# Altium schematic symbol library 613 0xx 218 21.SchLib: 21 symbols
Pins are listed as number, name and electrical type; pins without a type are passive.

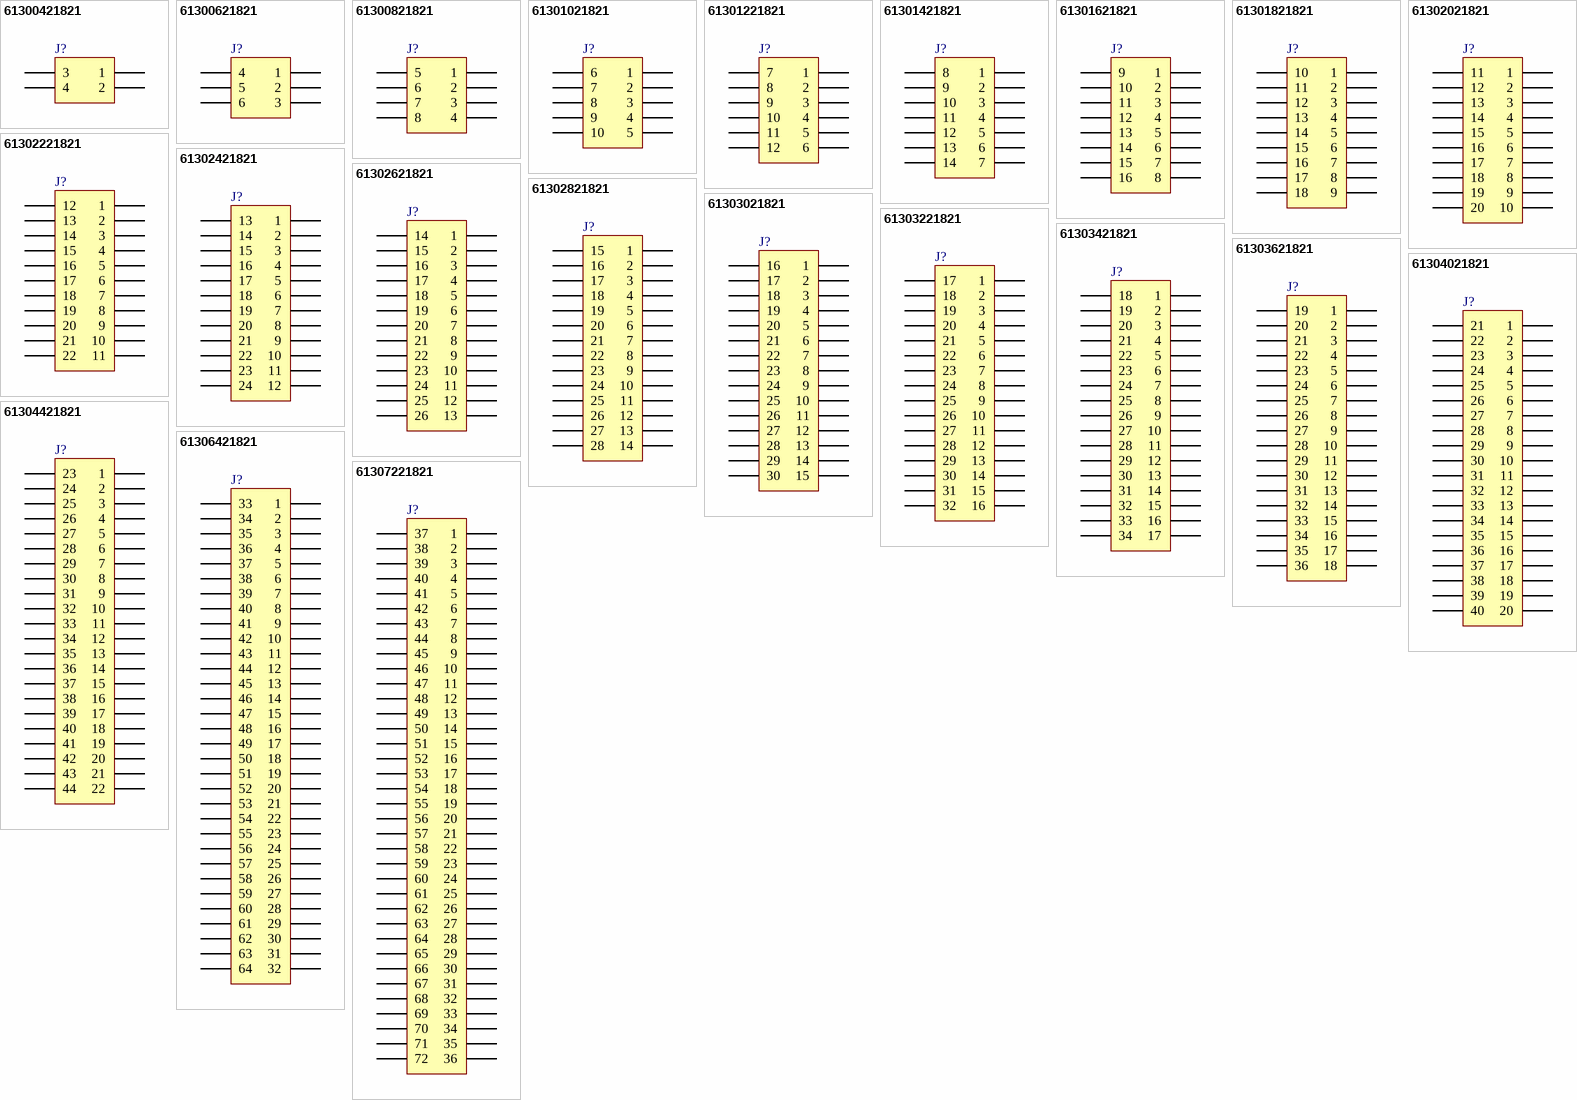
[diagram p0: symbols 61300421821 to 61307221821]

## 61300421821
designator J?, comment 04p  (value not drawn)
WR-PHD 2.54 mm Dual Socket Header, 04p; PartNumber: 61300421821; PublishedDate: July 2016; Publisher: Wurth Elektronik; ComponentLink1Description: Manufacturer; ComponentLink1URL: http://www.we-online.de; ComponentLink2Description: Datasheet; ComponentLink2URL: http://katalog.we-online.de/em/datasheet/6130xx21821.pdf; PinNumber: 04p
footprint 61300421821
pins: 1, 2, 3, 4

## 61300621821
designator J?, comment 06p  (value not drawn)
WR-PHD 2.54 mm Dual Socket Header, 06p; PartNumber: 61300621821; PublishedDate: July 2016; Publisher: Wurth Elektronik; ComponentLink1Description: Manufacturer; ComponentLink1URL: http://www.we-online.de; ComponentLink2Description: Datasheet; ComponentLink2URL: http://katalog.we-online.de/em/datasheet/6130xx21821.pdf; PinNumber: 06p
footprint 61300621821
pins: 1, 2, 3, 4, 5, 6

## 61300821821
designator J?, comment 08p  (value not drawn)
WR-PHD 2.54 mm Dual Socket Header, 08p; PartNumber: 61300821821; PublishedDate: July 2016; Publisher: Wurth Elektronik; ComponentLink1Description: Manufacturer; ComponentLink1URL: http://www.we-online.de; ComponentLink2Description: Datasheet; ComponentLink2URL: http://katalog.we-online.de/em/datasheet/6130xx21821.pdf; PinNumber: 08p
footprint 61300821821
pins: 1, 2, 3, 4, 5, 6, 7, 8

## 61301021821
designator J?, comment 10p  (value not drawn)
WR-PHD 2.54 mm Dual Socket Header, 10p; PartNumber: 61301021821; PublishedDate: July 2016; Publisher: Wurth Elektronik; ComponentLink1Description: Manufacturer; ComponentLink1URL: http://www.we-online.de; ComponentLink2Description: Datasheet; ComponentLink2URL: http://katalog.we-online.de/em/datasheet/6130xx21821.pdf; PinNumber: 10p
footprint 61301021821
pins: 1, 2, 3, 4, 5, 6, 7, 8, 9, 10

## 61301221821
designator J?, comment 12p  (value not drawn)
WR-PHD 2.54 mm Dual Socket Header, 12p; PartNumber: 61301221821; PublishedDate: July 2016; Publisher: Wurth Elektronik; ComponentLink1Description: Manufacturer; ComponentLink1URL: http://www.we-online.de; ComponentLink2Description: Datasheet; ComponentLink2URL: http://katalog.we-online.de/em/datasheet/6130xx21821.pdf; PinNumber: 12p
footprint 61301221821
pins: 1, 2, 3, 4, 5, 6, 7, 8, 9, 10, 11, 12

## 61301421821
designator J?, comment 14p  (value not drawn)
WR-PHD 2.54 mm Dual Socket Header, 14p; PartNumber: 61301421821; PublishedDate: July 2016; Publisher: Wurth Elektronik; ComponentLink1Description: Manufacturer; ComponentLink1URL: http://www.we-online.de; ComponentLink2Description: Datasheet; ComponentLink2URL: http://katalog.we-online.de/em/datasheet/6130xx21821.pdf; PinNumber: 14p
footprint 61301421821
pins: 1, 2, 3, 4, 5, 6, 7, 8, 9, 10, 11, 12, 13, 14

## 61301621821
designator J?, comment 16p  (value not drawn)
WR-PHD 2.54 mm Dual Socket Header, 16p; PartNumber: 61301621821; PublishedDate: July 2016; Publisher: Wurth Elektronik; ComponentLink1Description: Manufacturer; ComponentLink1URL: http://www.we-online.de; ComponentLink2Description: Datasheet; ComponentLink2URL: http://katalog.we-online.de/em/datasheet/6130xx21821.pdf; PinNumber: 16p
footprint 61301621821
pins: 1, 2, 3, 4, 5, 6, 7, 8, 9, 10, 11, 12, 13, 14, 15, 16

## 61301821821
designator J?, comment 18p  (value not drawn)
WR-PHD 2.54 mm Dual Socket Header, 18p; PartNumber: 61301821821; PublishedDate: July 2016; Publisher: Wurth Elektronik; ComponentLink1Description: Manufacturer; ComponentLink1URL: http://www.we-online.de; ComponentLink2Description: Datasheet; ComponentLink2URL: http://katalog.we-online.de/em/datasheet/6130xx21821.pdf; PinNumber: 18p
footprint 61301821821
pins: 1, 2, 3, 4, 5, 6, 7, 8, 9, 10, 11, 12, 13, 14, 15, 16, 17, 18

## 61302021821
designator J?, comment 20p  (value not drawn)
WR-PHD 2.54 mm Dual Socket Header, 20p; PartNumber: 61302021821; PublishedDate: July 2016; Publisher: Wurth Elektronik; ComponentLink1Description: Manufacturer; ComponentLink1URL: http://www.we-online.de; ComponentLink2Description: Datasheet; ComponentLink2URL: http://katalog.we-online.de/em/datasheet/6130xx21821.pdf; PinNumber: 20p
footprint 61302021821
pins: 1, 2, 3, 4, 5, 6, 7, 8, 9, 10, 11, 12, 13, 14, 15, 16, 17, 18, 19, 20

## 61302221821
designator J?, comment 22p  (value not drawn)
WR-PHD 2.54 mm Dual Socket Header, 22p; PartNumber: 61302221821; PublishedDate: July 2016; Publisher: Wurth Elektronik; ComponentLink1Description: Manufacturer; ComponentLink1URL: http://www.we-online.de; ComponentLink2Description: Datasheet; ComponentLink2URL: http://katalog.we-online.de/em/datasheet/6130xx21821.pdf; PinNumber: 22p
footprint 61302221821
pins: 1, 2, 3, 4, 5, 6, 7, 8, 9, 10, 11, 12, 13, 14, 15, 16, 17, 18, 19, 20, 21, 22

## 61302421821
designator J?, comment 24p  (value not drawn)
WR-PHD 2.54 mm Dual Socket Header, 24p; PartNumber: 61302421821; PublishedDate: July 2016; Publisher: Wurth Elektronik; ComponentLink1Description: Manufacturer; ComponentLink1URL: http://www.we-online.de; ComponentLink2Description: Datasheet; ComponentLink2URL: http://katalog.we-online.de/em/datasheet/6130xx21821.pdf; PinNumber: 24p
footprint 61302421821
pins: 1, 2, 3, 4, 5, 6, 7, 8, 9, 10, 11, 12, 13, 14, 15, 16, 17, 18, 19, 20, 21, 22, 23, 24

## 61302621821
designator J?, comment 26p  (value not drawn)
WR-PHD 2.54 mm Dual Socket Header, 26p; PartNumber: 61302621821; PublishedDate: July 2016; Publisher: Wurth Elektronik; ComponentLink1Description: Manufacturer; ComponentLink1URL: http://www.we-online.de; ComponentLink2Description: Datasheet; ComponentLink2URL: http://katalog.we-online.de/em/datasheet/6130xx21821.pdf; PinNumber: 26p
footprint 61302621821
pins: 1, 2, 3, 4, 5, 6, 7, 8, 9, 10, 11, 12, 13, 14, 15, 16, 17, 18, 19, 20, 21, 22, 23, 24, 25, 26

## 61302821821
designator J?, comment 28p  (value not drawn)
WR-PHD 2.54 mm Dual Socket Header, 28p; PartNumber: 61302821821; PublishedDate: July 2016; Publisher: Wurth Elektronik; ComponentLink1Description: Manufacturer; ComponentLink1URL: http://www.we-online.de; ComponentLink2Description: Datasheet; ComponentLink2URL: http://katalog.we-online.de/em/datasheet/6130xx21821.pdf; PinNumber: 28p
footprint 61302821821
pins: 1, 2, 3, 4, 5, 6, 7, 8, 9, 10, 11, 12, 13, 14, 15, 16, 17, 18, 19, 20, 21, 22, 23, 24, 25, 26, 27, 28

## 61303021821
designator J?, comment 30p  (value not drawn)
WR-PHD 2.54 mm Dual Socket Header, 30p; PartNumber: 61303021821; PublishedDate: July 2016; Publisher: Wurth Elektronik; ComponentLink1Description: Manufacturer; ComponentLink1URL: http://www.we-online.de; ComponentLink2Description: Datasheet; ComponentLink2URL: http://katalog.we-online.de/em/datasheet/6130xx21821.pdf; PinNumber: 30p
footprint 61303021821
pins: 1, 2, 3, 4, 5, 6, 7, 8, 9, 10, 11, 12, 13, 14, 15, 16, 17, 18, 19, 20, 21, 22, 23, 24, 25, 26, 27, 28, 29, 30

## 61303221821
designator J?, comment 32p  (value not drawn)
WR-PHD 2.54 mm Dual Socket Header, 32p; PartNumber: 61303221821; PublishedDate: July 2016; Publisher: Wurth Elektronik; ComponentLink1Description: Manufacturer; ComponentLink1URL: http://www.we-online.de; ComponentLink2Description: Datasheet; ComponentLink2URL: http://katalog.we-online.de/em/datasheet/6130xx21821.pdf; PinNumber: 32p
footprint 61303221821
pins: 1, 2, 3, 4, 5, 6, 7, 8, 9, 10, 11, 12, 13, 14, 15, 16, 17, 18, 19, 20, 21, 22, 23, 24, 25, 26, 27, 28, 29, 30, 31, 32

## 61303421821
designator J?, comment 34p  (value not drawn)
WR-PHD 2.54 mm Dual Socket Header, 34p; PartNumber: 61303421821; PublishedDate: July 2016; Publisher: Wurth Elektronik; ComponentLink1Description: Manufacturer; ComponentLink1URL: http://www.we-online.de; ComponentLink2Description: Datasheet; ComponentLink2URL: http://katalog.we-online.de/em/datasheet/6130xx21821.pdf; PinNumber: 34p
footprint 61303421821
pins: 1, 2, 3, 4, 5, 6, 7, 8, 9, 10, 11, 12, 13, 14, 15, 16, 17, 18, 19, 20, 21, 22, 23, 24, 25, 26, 27, 28, 29, 30, 31, 32, 33, 34

## 61303621821
designator J?, comment 36p  (value not drawn)
WR-PHD 2.54 mm Dual Socket Header, 36p; PartNumber: 61303621821; PublishedDate: July 2016; Publisher: Wurth Elektronik; ComponentLink1Description: Manufacturer; ComponentLink1URL: http://www.we-online.de; ComponentLink2Description: Datasheet; ComponentLink2URL: http://katalog.we-online.de/em/datasheet/6130xx21821.pdf; PinNumber: 36p
footprint 61303621821
pins: 1, 2, 3, 4, 5, 6, 7, 8, 9, 10, 11, 12, 13, 14, 15, 16, 17, 18, 19, 20, 21, 22, 23, 24, 25, 26, 27, 28, 29, 30, 31, 32, 33, 34, 35, 36

## 61304021821
designator J?, comment 40p  (value not drawn)
WR-PHD 2.54 mm Dual Socket Header, 40p; PartNumber: 61304021821; PublishedDate: July 2016; Publisher: Wurth Elektronik; ComponentLink1Description: Manufacturer; ComponentLink1URL: http://www.we-online.de; ComponentLink2Description: Datasheet; ComponentLink2URL: http://katalog.we-online.de/em/datasheet/6130xx21821.pdf; PinNumber: 40p
footprint 61304021821
pins: 1, 2, 3, 4, 5, 6, 7, 8, 9, 10, 11, 12, 13, 14, 15, 16, 17, 18, 19, 20, 21, 22, 23, 24, 25, 26, 27, 28, 29, 30, 31, 32, 33, 34, 35, 36, 37, 38, 39, 40

## 61304421821
designator J?, comment 44p  (value not drawn)
WR-PHD 2.54 mm Dual Socket Header, 44p; PartNumber: 61304421821; PublishedDate: July 2016; Publisher: Wurth Elektronik; ComponentLink1Description: Manufacturer; ComponentLink1URL: http://www.we-online.de; ComponentLink2Description: Datasheet; ComponentLink2URL: http://katalog.we-online.de/em/datasheet/6130xx21821.pdf; PinNumber: 44p
footprint 61304421821
pins: 1, 2, 3, 4, 5, 6, 7, 8, 9, 10, 11, 12, 13, 14, 15, 16, 17, 18, 19, 20, 21, 22, 23, 24, 25, 26, 27, 28, 29, 30, 31, 32, 33, 34, 35, 36, 37, 38, 39, 40, 41, 42, 43, 44

## 61306421821
designator J?, comment 64p  (value not drawn)
WR-PHD 2.54 mm Dual Socket Header, 64p; PartNumber: 61306421821; PublishedDate: July 2016; Publisher: Wurth Elektronik; ComponentLink1Description: Manufacturer; ComponentLink1URL: http://www.we-online.de; ComponentLink2Description: Datasheet; ComponentLink2URL: http://katalog.we-online.de/em/datasheet/6130xx21821.pdf; PinNumber: 64p
footprint 61306421821
pins: 1, 2, 3, 4, 5, 6, 7, 8, 9, 10, 11, 12, 13, 14, 15, 16, 17, 18, 19, 20, 21, 22, 23, 24, 25, 26, 27, 28, 29, 30, 31, 32, 33, 34, 35, 36, 37, 38, 39, 40, 41, 42, 43, 44, 45, 46, 47, 48, 49, 50, 51, 52, 53, 54, 55, 56, 57, 58, 59, 60, 61, 62, 63, 64

## 61307221821
designator J?, comment 72p  (value not drawn)
WR-PHD 2.54 mm Dual Socket Header, 72p; PartNumber: 61307221821; PublishedDate: July 2016; Publisher: Wurth Elektronik; ComponentLink1Description: Manufacturer; ComponentLink1URL: http://www.we-online.de; ComponentLink2Description: Datasheet; ComponentLink2URL: http://katalog.we-online.de/em/datasheet/6130xx21821.pdf; PinNumber: 72p
footprint 61307221821
pins: 1, 2, 3, 4, 5, 6, 7, 8, 9, 10, 11, 12, 13, 14, 15, 16, 17, 18, 19, 20, 21, 22, 23, 24, 25, 26, 27, 28, 29, 30, 31, 32, 33, 34, 35, 36, 37, 38, 39, 40, 41, 42, 43, 44, 45, 46, 47, 48, 49, 50, 51, 52, 53, 54, 55, 56, 57, 58, 59, 60, 61, 62, 63, 64, 65, 66, 67, 68, 69, 70, 71, 72